# EAGLE library part MCP73114-0NSI_MF (library MCP73114-0NSI_MF)
Single cell, 5.8V OVP battery Charger Source: Datasheet <http://ww1.microchip.com/downloads/en/DeviceDoc/20002183E.pdf>
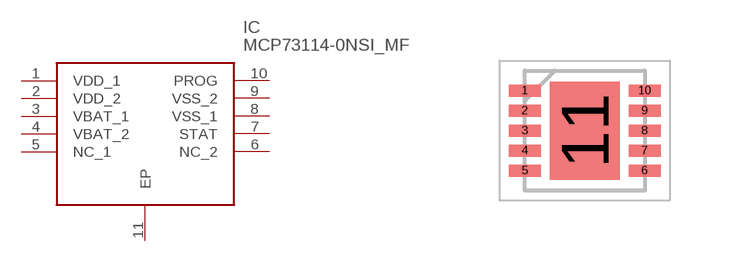
[diagram p0: symbol with the pads of SON50P300X300X100-11N; footprint SON50P300X300X100-11N]

Designator prefix IC

## MCP73114-0NSI_MF (Description: Single cell, 5.8V OVP battery Charger; Height: 1mm; Manufacturer_Name: Microchip; Manufacturer_Part_Number: MCP73114-0NSI/MF)  [SON50P300X300X100-11N]
1  VDD_1
2  VDD_2
3  VBAT_1
4  VBAT_2
5  NC_1
6  NC_2
7  STAT
8  VSS_1
9  VSS_2
10  PROG
11  EP

## Footprint SON50P300X300X100-11N (pad centres in mm)
(MF)10-Lead(DFN)
smd 0.8 x 0.3: 1 -1.5,1; 2 -1.5,0.5; 3 -1.5,0; 4 -1.5,-0.5; 5 -1.5,-1; 6 1.5,-1; 7 1.5,-0.5; 8 1.5,0; 9 1.5,0.5; 10 1.5,1
smd 1.75 x 2.45: 11 0,0